# EAGLE library part LM4990 (library mbonnin)
2W audio amplifier with shutdown
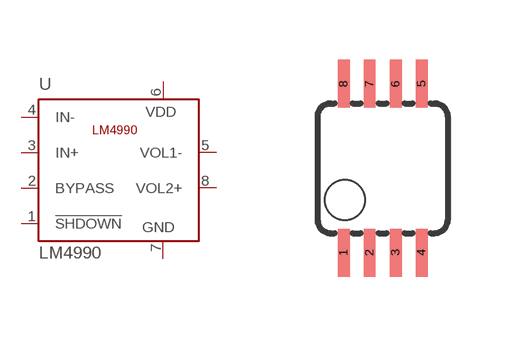
[diagram p1: symbol with the pads of MSOP08; footprint MSOP08]

Designator prefix -

## LM4990  [MSOP08]
1  !SHDOWN  in
2  BYPASS  pas
3  IN+  in
4  IN-  in
5  VOL1-  out
6  VDD  pwr
7  GND  pwr
8  VOL2+  out

## Footprint MSOP08 (pad centres in mm)
smd 0.3 x 1.2: 1 -0.976,-2.113; 2 -0.326,-2.113; 3 0.324,-2.113; 4 0.974,-2.113; 5 0.974,2.112; 6 0.324,2.112; 7 -0.326,2.112; 8 -0.976,2.112